# Altium schematic symbol library 4070.Schlib: 1 symbol
Pins are listed as number, name and electrical type; pins without a type are passive.

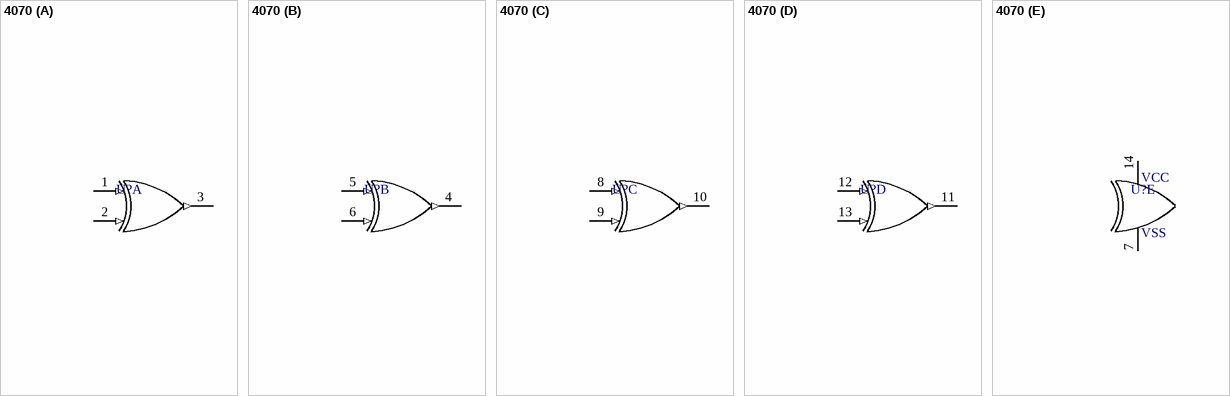
[diagram p0: symbol 4070]

## 4070
designator U?  (value not drawn)
IC, Quad 2-Input XOR Gate
part A pins: 1 1A (in), 2 1B (in), 3 1Y (out)
part B pins: 4 2Y (out), 5 2A (in), 6 2B (in)
part C pins: 8 3A (in), 9 3B (in), 10 3Y (out)
part D pins: 11 4Y (out), 12 4A (in), 13 4B (in)
part E pins: 7 GND (power), 14 VCC (power)
part E text: VSS